# Altium schematic symbol library audio_dev_pcb.SchLib: 21 symbols
Pins are listed as number, name and electrical type; pins without a type are passive.

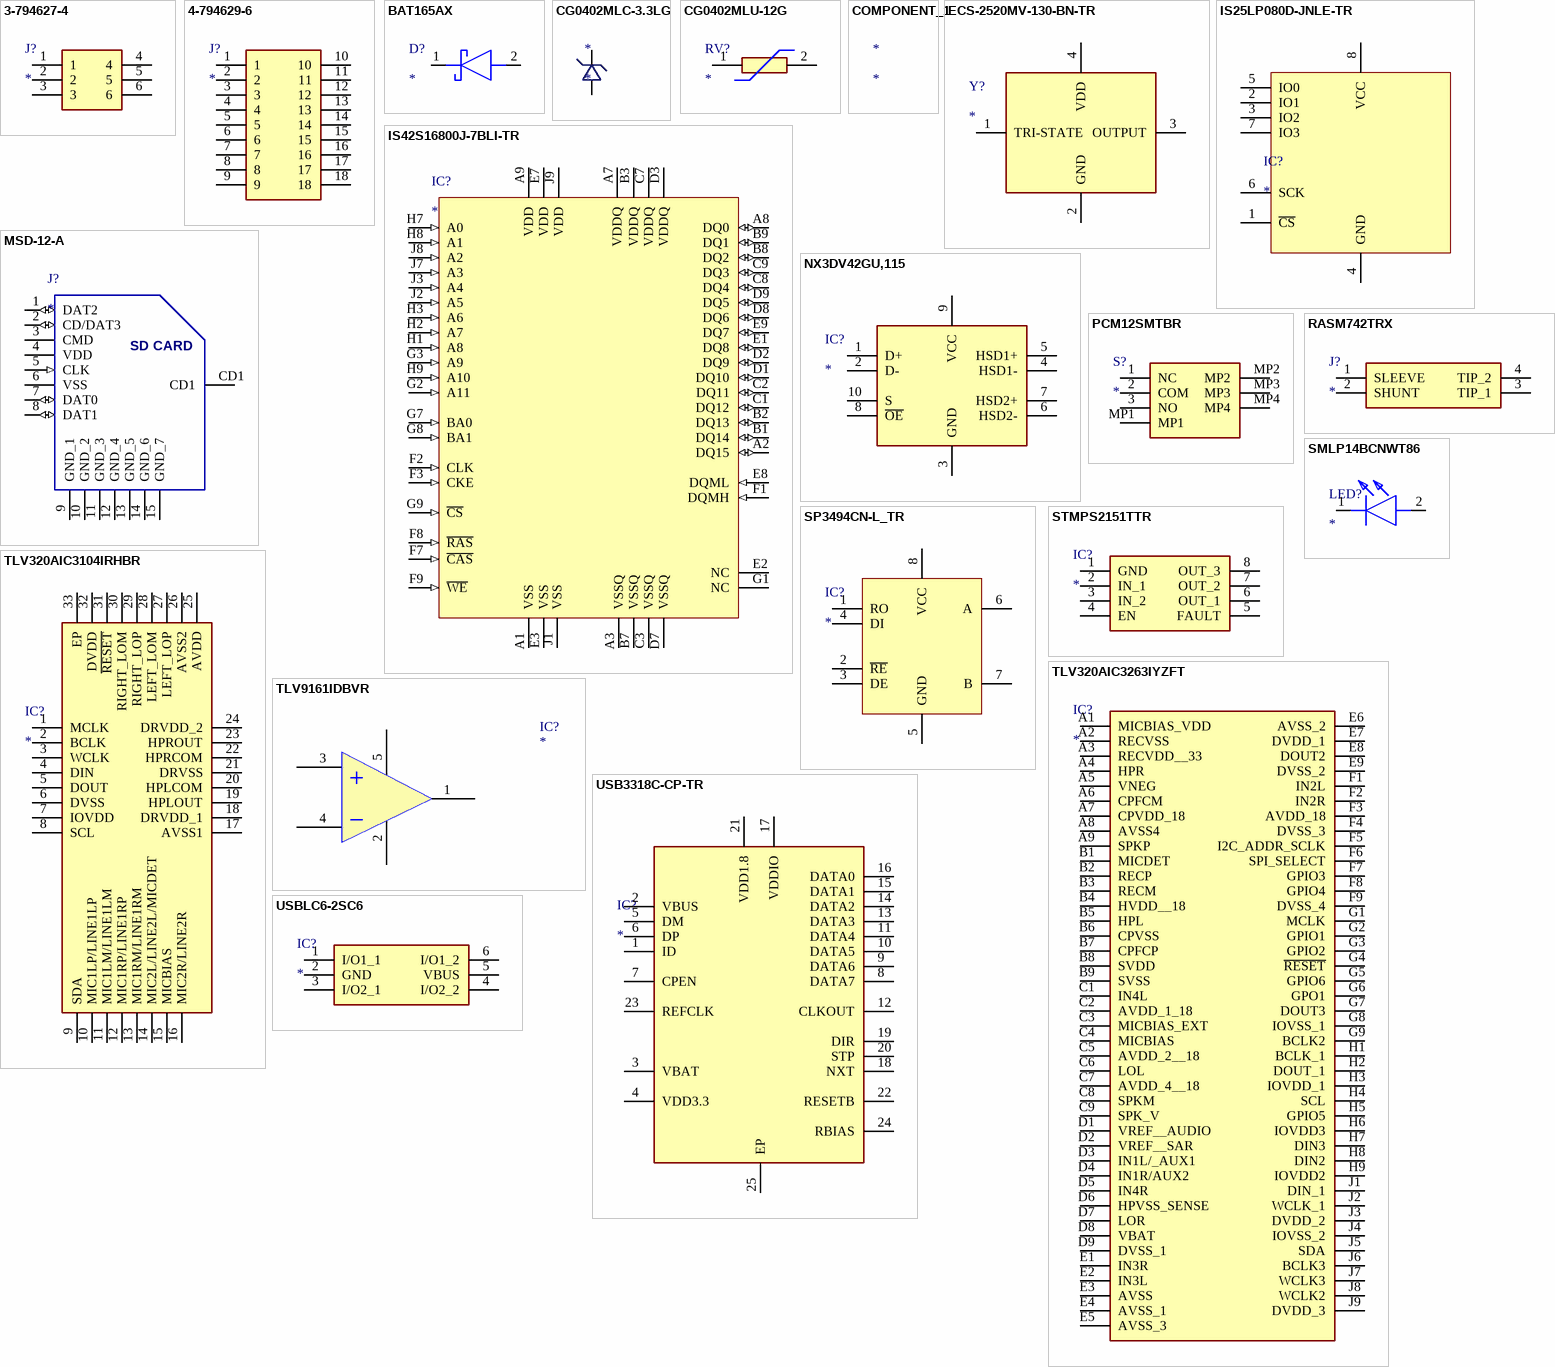
[diagram p0: symbols 3-794627-4 to USBLC6-2SC6]

## 3-794627-4
designator J?
Connector; Manufacturer_Name: TE Connectivity; Manufacturer_Part_Number: 3-794627-4; Datasheet Link: https://www.te.com/commerce/DocumentDelivery/DDEController?Action=srchrtrv&DocNm=micro-mate-n-lok-connector-qrg&DocType=Data%20Sheet&DocLang=English&PartCntxt=3-794627-4&DocFormat=pdf; Height: 8.8mm; Mouser Part Number: 571-3-794627-4; Mouser Price/Stock: https://www.mouser.co.uk/ProductDetail/TE-Connectivity-AMP/3-794627-4?qs=FGSkXkE%2FZ3Wegb353BDzUA%3D%3D; Arrow Part Number: 3-794627-4; Arrow Price/Stock: https://www.arrow.com/en/products/3-794627-4/te-connectivity?utm_currency=USD&region=europe
footprint 37946274
pins: 1, 2, 3, 4, 5, 6

## 4-794629-6
designator J?
Connector; Manufacturer_Name: TE Connectivity; Manufacturer_Part_Number: 4-794629-6; Description: Configuration Features: Number of Rows 2 | Number of Power Positions 16 | PCB Mount Orientation Right Angle | Number of Positions 16 | Contact Features: Contact Mating Area Plating Material Gold | PCB Contact Termination Area Plating Material Thickness 3.81 MICM | Contact Mating Area Plating Material Thickness .76 MICM | PCB Contact Termination Area Plating Material Tin | Contact Retention Within Housing Without | Multiple Contact Types Without | Contact Current Rating (Max) 5 AMP | Contact Type Pin | Conta; Datasheet Link: https://www.te.com/commerce/DocumentDelivery/DDEController?Action=srchrtrv&DocNm=micro-mate-n-lok-connector-qrg&DocType=Data%20Sheet&DocLang=English&PartCntxt=4-794629-6&DocFormat=pdf; Height: 8.67mm; Mouser Part Number: 571-4-794629-6; Mouser Price/Stock: https://www.mouser.co.uk/ProductDetail/TE-Connectivity-AMP/4-794629-6?qs=vczR1Rbrl535QN5OwRvF4g%3D%3D; Arrow Part Number: 4-794629-6; Arrow Price/Stock: https://www.arrow.com/en/products/4-794629-6/te-connectivity?region=nac
footprint 47946296
pins: 1, 2, 3, 4, 5, 6, 7, 8, 9, 10, 11, 12, 13, 14, 15, 16, 17, 18

## BAT165AX
designator D?
Schottky Diode; Manufacturer_Name: Nexperia; Manufacturer_Part_Number: BAT165AX; Datasheet Link: https://assets.nexperia.com/documents/data-sheet/BAT165A.pdf; Height: 1.1mm; Mouser Part Number: 771-BAT165AX; Mouser Price/Stock: https://www.mouser.co.uk/ProductDetail/Nexperia/BAT165AX?qs=1fQ7IOp4WriMQ9TlJoQ5jw%3D%3D; Arrow Part Number: BAT165AX; Arrow Price/Stock: https://www.arrow.com/en/products/bat165ax/nexperia?utm_currency=USD&region=nac
footprint BAT165AX
pins: 1 K, 2 A

## CG0402MLC-3.3LG
designator *
footprint CG0402MLC-3.3LG
pins: 1, 2 17

## CG0402MLU-12G
designator RV?
Varistor; Manufacturer_Name: Bourns; Manufacturer_Part_Number: CG0402MLU-12G; Datasheet Link: https://bourns.com/docs/product-datasheets/mlu.pdf?sfvrsn=1940d498_27; Height: 0.41mm; Mouser Part Number: 652-CG0402MLU-12G; Mouser Price/Stock: https://www.mouser.co.uk/ProductDetail/Bourns/CG0402MLU-12G?qs=m8myXnDJXpUNz33UIHxVhA%3D%3D; Arrow Part Number: CG0402MLU-12G; Arrow Price/Stock: https://www.arrow.com/en/products/cg0402mlu-12g/bourns?utm_currency=USD&region=nac
footprint VARC1005X41N
pins: 1, 2

## COMPONENT_1
designator *

## ECS-2520MV-130-BN-TR
designator Y?
Crystal or Oscillator; Manufacturer_Name: ECS; Manufacturer_Part_Number: ECS-2520MV-130-BN-TR; Datasheet Link: https://ecsxtal.com/store/pdf/ECS-2520MV.pdf; Height: 0.9mm; Mouser Part Number: 520-S2520MV130BNTR; Mouser Price/Stock: https://www.mouser.co.uk/ProductDetail/ECS/ECS-2520MV-130-BN-TR?qs=zW32dvEIR3txl7djIFQDkw%3D%3D; Arrow Part Number: ECS-2520MV-130-BN-TR; Arrow Price/Stock: https://www.arrow.com/en/products/ecs-2520mv-130-bn-tr/ecs-international?utm_currency=USD&region=nac
footprint ECS2520MV130BNTR
pins: 1 TRI-STATE, 2 GND, 3 OUTPUT, 4 VDD

## IS25LP080D-JNLE-TR
designator IC?
Integrated Circuit; Manufacturer_Name: Integrated Silicon Solution Inc.; Manufacturer_Part_Number: IS25LP080D-JNLE-TR; Datasheet Link: https://www.mouser.com/datasheet/2/198/25LP-WP080D-1003192.pdf; Height: 1.75mm; Mouser Part Number: 870-IS25LP080DJNLETR; Mouser Price/Stock: https://www.mouser.co.uk/ProductDetail/ISSI/IS25LP080D-JNLE-TR?qs=pif5%252B9MYt0VkH9msMJ5aTQ%3D%3D; Arrow Part Number: IS25LP080D-JNLE-TR; Arrow Price/Stock: https://www.arrow.com/en/products/is25lp080d-jnle-tr/integrated-silicon-solution-inc?region=nac
footprint SOIC127P600X175-8N
pins: 1 ~{CS}, 2 IO1, 3 IO2, 4 GND, 5 IO0, 6 SCK, 7 IO3, 8 VCC

## IS42S16800J-7BLI-TR
designator IC?
Integrated Circuit; Manufacturer_Name: Integrated Silicon Solution Inc.; Manufacturer_Part_Number: IS42S16800J-7BLI-TR; Datasheet Link: https://www.mouser.be/datasheet/2/198/42_45S81600J_16800J-3460583.pdf; Height: 1.2mm
footprint IS42S16800J-7BLI-TR
pins: A1 VSS, A2 DQ15 (io), A3 VSSQ, A7 VDDQ, A8 DQ0 (io), A9 VDD, B1 DQ14 (io), B2 DQ13 (io), B3 VDDQ, B7 VSSQ, B8 DQ2 (io), B9 DQ1 (io), C1 DQ12 (io), C2 DQ11 (io), C3 VSSQ, C7 VDDQ, C8 DQ4 (io), C9 DQ3 (io), D1 DQ10 (io), D2 DQ9 (io), D3 VDDQ, D7 VSSQ, D8 DQ6 (io), D9 DQ5 (io), E1 DQ8 (io), E2 NC, E3 VSS, E7 VDD, E8 DQML (in), E9 DQ7 (io), F1 DQMH (in), F2 CLK (in), F3 CKE (in), F7 ~{CAS} (in), F8 ~{RAS} (in), F9 ~{WE} (in), G1 NC, G2 A11 (in), G3 A9 (in), G7 BA0 (in), G8 BA1 (in), G9 ~{CS} (in), H1 A8 (in), H2 A7 (in), H3 A6 (in), H7 A0 (in), H8 A1 (in), H9 A10 (in), J1 VSS, J2 A5 (in), J3 A4 (in), J7 A3 (in), J8 A2 (in), J9 VDD

## MSD-12-A
designator J?
Connector; Manufacturer_Name: Same Sky; Manufacturer_Part_Number: MSD-12-A; Datasheet Link: https://www.sameskydevices.com/product/resource/MSD-12-A.pdf; Height: 1.6mm; Mouser Part Number: 179-MSD-12-A; Mouser Price/Stock: https://www.mouser.co.uk/ProductDetail/Same-Sky/MSD-12-A?qs=Z%252BL2brAPG1KTGgvYejyeAQ%3D%3D; Arrow Part Number: MSD-12-A; Arrow Price/Stock: https://www.arrow.com/en/products/msd-12-a/cui-devices?utm_currency=USD&region=nac
footprint MSD12A
pins: 1 DAT2 (io), 2 CD/DAT3 (io), 3 CMD, 4 VDD, 5 CLK (in), 6 VSS, 7 DAT0 (io), 8 DAT1 (io), 9 GND_1, 10 GND_2, 11 GND_3, 12 GND_4, 13 GND_5, 14 GND_6, 15 GND_7, CD1
text: SD CARD

## NX3DV42GU,115
designator IC?
Integrated Circuit; Manufacturer_Name: NXP; Manufacturer_Part_Number: NX3DV42GU,115; Datasheet Link: http://www.nxp.com/docs/en/data-sheet/NX3DV42.pdf; Height: 0.5mm; Mouser Part Number: 771-NX3DV42GU115; Mouser Price/Stock: https://www.mouser.co.uk/ProductDetail/NXP-Semiconductors/NX3DV42GU115?qs=cbprxTG2Yq%252BinzuyAklGVQ%3D%3D; Arrow Part Number: NX3DV42GU,115; Arrow Price/Stock: https://www.arrow.com/en/products/nx3dv42gu115/nxp-semiconductors?region=nac
footprint QFN40P140X180X50-10N
pins: 1 D+, 2 D-, 3 GND, 4 HSD1-, 5 HSD1+, 6 HSD2-, 7 HSD2+, 8 ~{OE}, 9 VCC, 10 S

## PCM12SMTBR
designator S?
Switch; Manufacturer_Name: C & K COMPONENTS; Manufacturer_Part_Number: PCM12SMTBR; Datasheet Link: https://www.ckswitches.com/media/1424/pcm.pdf; Height: 1.4mm; Mouser Part Number: 611-PCM12SMTBR; Mouser Price/Stock: https://www.mouser.co.uk/ProductDetail/CK/PCM12SMTBR?qs=By6Nw2ByBD1OEOnWcdZb2g%3D%3D; Arrow Part Number: PCM12SMTBR; Arrow Price/Stock: https://www.arrow.com/en/products/pcm12smtbr/ck?utm_currency=USD&region=europe
footprint PCM12SMTBR
pins: 1 NC, 2 COM, 3 NO, MP1, MP2, MP3, MP4

## RASM742TRX
designator J?
Connector; Manufacturer_Name: Switchcraft; Manufacturer_Part_Number: RASM742TRX; Datasheet Link: https://www.mouser.ph/ProductDetail/Switchcraft/RASM742TRX?qs=mcPJWgAPNrdcPY6U4InXHg%3D%3D&srsltid=AfmBOooMj0kEPMqk1k0gwFmsjJjNoSaW62hNPqqtUxzbBym_46hZI4RS; Height: 5.334mm; Mouser Part Number: 502-RASM742TRX; Mouser Price/Stock: https://www.mouser.co.uk/ProductDetail/Switchcraft/RASM742TRX?qs=mcPJWgAPNrdcPY6U4InXHg%3D%3D; Arrow Part Number: RASM742TRX; Arrow Price/Stock: https://www.arrow.com/en/products/rasm742trx/switchcraft?region=nac
footprint RASM742TRX
pins: 1 SLEEVE, 2 SHUNT, 3 TIP_1, 4 TIP_2

## SMLP14BCNWT86
designator LED?
LED; Manufacturer_Name: ROHM Semiconductor; Manufacturer_Part_Number: SMLP14BCNWT86; Datasheet Link: https://fscdn.rohm.com/en/products/databook/datasheet/opto/led/chip_mono/smlp14bcnwt86-e.pdf; Height: 0.25mm
footprint SMLP14BCNWT86
pins: 1 K, 2 A

## SP3494CN-L_TR
designator IC?
Integrated Circuit; Manufacturer_Name: MaxLinear; Manufacturer_Part_Number: SP3494CN-L/TR; Datasheet Link: https://www.arrow.com/en/products/sp3494cn-ltr/maxlinear-inc?region=nac; Height: 1.75mm; Mouser Part Number: 701-SP3494CN-L/TR; Mouser Price/Stock: https://www.mouser.co.uk/ProductDetail/MaxLinear/SP3494CN-L-TR?qs=3EMgrMjM0faUFCPV%252BPTaUQ%3D%3D; Arrow Part Number: SP3494CN-L/TR; Arrow Price/Stock: https://www.arrow.com/en/products/sp3494cn-ltr/maxlinear-inc?region=nac
footprint SOIC127P600X175-8N
pins: 1 RO, 2 ~{RE}, 3 DE, 4 DI, 5 GND, 6 A, 7 B, 8 VCC

## STMPS2151TTR
designator IC?
Integrated Circuit; Manufacturer_Name: STMicroelectronics; Manufacturer_Part_Number: STMPS2151TTR; Datasheet Link: https://www.st.com/resource/en/datasheet/stmps2141.pdf; Height: 1.1mm; Mouser Part Number: 511-STMPS2151TTR; Mouser Price/Stock: https://www.mouser.co.uk/ProductDetail/STMicroelectronics/STMPS2151TTR?qs=qolwYojYp3TtdEE8TCWfkg%3D%3D; Arrow Part Number: STMPS2151TTR; Arrow Price/Stock: https://www.arrow.com/en/products/stmps2151ttr/stmicroelectronics
footprint SOP65P490X110-8N
pins: 1 GND, 2 IN_1, 3 IN_2, 4 EN, 5 FAULT, 6 OUT_1, 7 OUT_2, 8 OUT_3

## TLV320AIC3104IRHBR
designator IC?
Integrated Circuit; Manufacturer_Name: Texas Instruments; Manufacturer_Part_Number: TLV320AIC3104IRHBR; Datasheet Link: http://www.ti.com/lit/ds/symlink/tlv320aic3104.pdf; Height: 1mm; Mouser Part Number: 595-TLV320C3104IRHBR; Mouser Price/Stock: https://www.mouser.co.uk/ProductDetail/Texas-Instruments/TLV320AIC3104IRHBR?qs=t6sYTo5dwUzbYVbTYmm%2FAg%3D%3D; Arrow Part Number: TLV320AIC3104IRHBR; Arrow Price/Stock: https://www.arrow.com/en/products/tlv320aic3104irhbr/texas-instruments?utm_currency=USD&region=nac
footprint TLV320AIC3104IRHBR
pins: 1 MCLK, 2 BCLK, 3 WCLK, 4 DIN, 5 DOUT, 6 DVSS, 7 IOVDD, 8 SCL, 9 SDA, 10 MIC1LP/LINE1LP, 11 MIC1LM/LINE1LM, 12 MIC1RP/LINE1RP, 13 MIC1RM/LINE1RM, 14 MIC2L/LINE2L/MICDET, 15 MICBIAS, 16 MIC2R/LINE2R, 17 AVSS1, 18 DRVDD_1, 19 HPLOUT, 20 HPLCOM, 21 DRVSS, 22 HPRCOM, 23 HPROUT, 24 DRVDD_2, 25 AVDD, 26 AVSS2, 27 LEFT_LOP, 28 LEFT_LOM, 29 RIGHT_LOP, 30 RIGHT_LOM, 31 ~{RESET}, 32 DVDD, 33 EP

## TLV320AIC3263IYZFT
designator IC?
Integrated Circuit; Manufacturer_Name: Texas Instruments; Manufacturer_Part_Number: TLV320AIC3263IYZFT; Datasheet Link: https://www.ti.com/lit/gpn/TLV320AIC3263; Height: 0.625mm; Mouser Part Number: 595-V320AIC3263IYZFT; Mouser Price/Stock: https://www.mouser.com/Search/Refine.aspx?Keyword=595-V320AIC3263IYZFT; Arrow Part Number: TLV320AIC3263IYZFT; Arrow Price/Stock: https://www.arrow.com/en/products/tlv320aic3263iyzft/texas-instruments?region=nac
footprint BGA81C50P9X9_481X481X62
pins: A1 MICBIAS_VDD, A2 RECVSS, A3 RECVDD__33, A4 HPR, A5 VNEG, A6 CPFCM, A7 CPVDD_18, A8 AVSS4, A9 SPKP, B1 MICDET, B2 RECP, B3 RECM, B4 HVDD__18, B5 HPL, B6 CPVSS, B7 CPFCP, B8 SVDD, B9 SVSS, C1 IN4L, C2 AVDD_1_18, C3 MICBIAS_EXT, C4 MICBIAS, C5 AVDD_2__18, C6 LOL, C7 AVDD_4__18, C8 SPKM, C9 SPK_V, D1 VREF__AUDIO, D2 VREF__SAR, D3 IN1L/_AUX1, D4 IN1R/AUX2, D5 IN4R, D6 HPVSS_SENSE, D7 LOR, D8 VBAT, D9 DVSS_1, E1 IN3R, E2 IN3L, E3 AVSS, E4 AVSS_1, E5 AVSS_3, E6 AVSS_2, E7 DVDD_1, E8 DOUT2, E9 DVSS_2, F1 IN2L, F2 IN2R, F3 AVDD_18, F4 DVSS_3, F5 I2C_ADDR_SCLK, F6 SPI_SELECT, F7 GPIO3, F8 GPIO4, F9 DVSS_4, G1 MCLK, G2 GPIO1, G3 GPIO2, G4 ~{RESET}, G5 GPIO6, G6 GPO1, G7 DOUT3, G8 IOVSS_1, G9 BCLK2, H1 BCLK_1, H2 DOUT_1, H3 IOVDD_1, H4 SCL, H5 GPIO5, H6 IOVDD3, H7 DIN3, H8 DIN2, H9 IOVDD2, J1 DIN_1, J2 WCLK_1, J3 DVDD_2, J4 IOVSS_2, J5 SDA, J6 BCLK3, J7 WCLK3, J8 WCLK2, J9 DVDD_3

## TLV9161IDBVR
designator IC?
Integrated Circuit; Manufacturer_Name: Texas Instruments; Manufacturer_Part_Number: TLV9161IDBVR; Datasheet Link: https://www.ti.com/lit/ds/symlink/tlv9161.pdf?HQS=dis-mous-null-mousermode-dsf-pf-null-wwe&ts=1675947383550&ref_url=https%253A%252F%252Fwww.mouser.de%252F; Height: 1.45mm; Mouser Part Number: 595-TLV9161IDBVR; Mouser Price/Stock: https://www.mouser.co.uk/ProductDetail/Texas-Instruments/TLV9161IDBVR?qs=Rp5uXu7WBW%2FkWJAGvxG3xQ%3D%3D; Arrow Part Number: TLV9161IDBVR; Arrow Price/Stock: https://www.arrow.com/en/products/tlv9161idbvr/texas-instruments?utm_currency=USD&region=nac
footprint SOT95P280X145-5N
pins: 1 OUT, 2 V-, 3 IN+, 4 IN-, 5 V+

## USB3318C-CP-TR
designator IC?
Integrated Circuit; Manufacturer_Name: Microchip; Manufacturer_Part_Number: USB3318C-CP-TR; Datasheet Link: http://www.microchip.com/mymicrochip/filehandler.aspx?ddocname=en562029; Height: 1mm; Mouser Part Number: 886-USB3318C-CP-TR; Mouser Price/Stock: https://www.mouser.co.uk/ProductDetail/Microchip-Technology/USB3318C-CP-TR?qs=pA5MXup5wxEqKRd0j%252Bo%252BXA%3D%3D; Arrow Part Number: USB3318C-CP-TR; Arrow Price/Stock: null?region=nac
footprint QFN50P400X400X100-25N-D
pins: 1 ID, 2 VBUS, 3 VBAT, 4 VDD3.3, 5 DM, 6 DP, 7 CPEN, 8 DATA7, 9 DATA6, 10 DATA5, 11 DATA4, 12 CLKOUT, 13 DATA3, 14 DATA2, 15 DATA1, 16 DATA0, 17 VDDIO, 18 NXT, 19 DIR, 20 STP, 21 VDD1.8, 22 RESETB, 23 REFCLK, 24 RBIAS, 25 EP

## USBLC6-2SC6
designator IC?
Integrated Circuit; Manufacturer_Name: STMicroelectronics; Manufacturer_Part_Number: USBLC6-2SC6; Datasheet Link: https://www.st.com/resource/en/datasheet/usblc6-2.pdf; Height: 1.45mm; Mouser Part Number: 511-USBLC6-2SC6; Mouser Price/Stock: https://www.mouser.co.uk/ProductDetail/STMicroelectronics/USBLC6-2SC6?qs=po45yt2pPpu%2FhNIlwQdTlg%3D%3D; Arrow Part Number: USBLC6-2SC6; Arrow Price/Stock: https://www.arrow.com/en/products/usblc6-2sc6/stmicroelectronics?utm_currency=USD&region=europe
footprint SOT95P280X145-6N
pins: 1 I/O1_1, 2 GND, 3 I/O2_1, 4 I/O2_2, 5 VBUS, 6 I/O1_2